# Altium footprint library WR-TBL_Pluggable Connector_7.62mm.PcbLib: 79 footprints (part 5 of 5)
Each footprint in its own frame and in the unit in brackets; x right, y up, seen from the top. Pads: shape width x height; smd on the part's side, far side on the other; paste and mask are expansions set on the pad; w line width, h text height; cw(c..) or ccw(c..) is an arc to the next point about the centre after c.
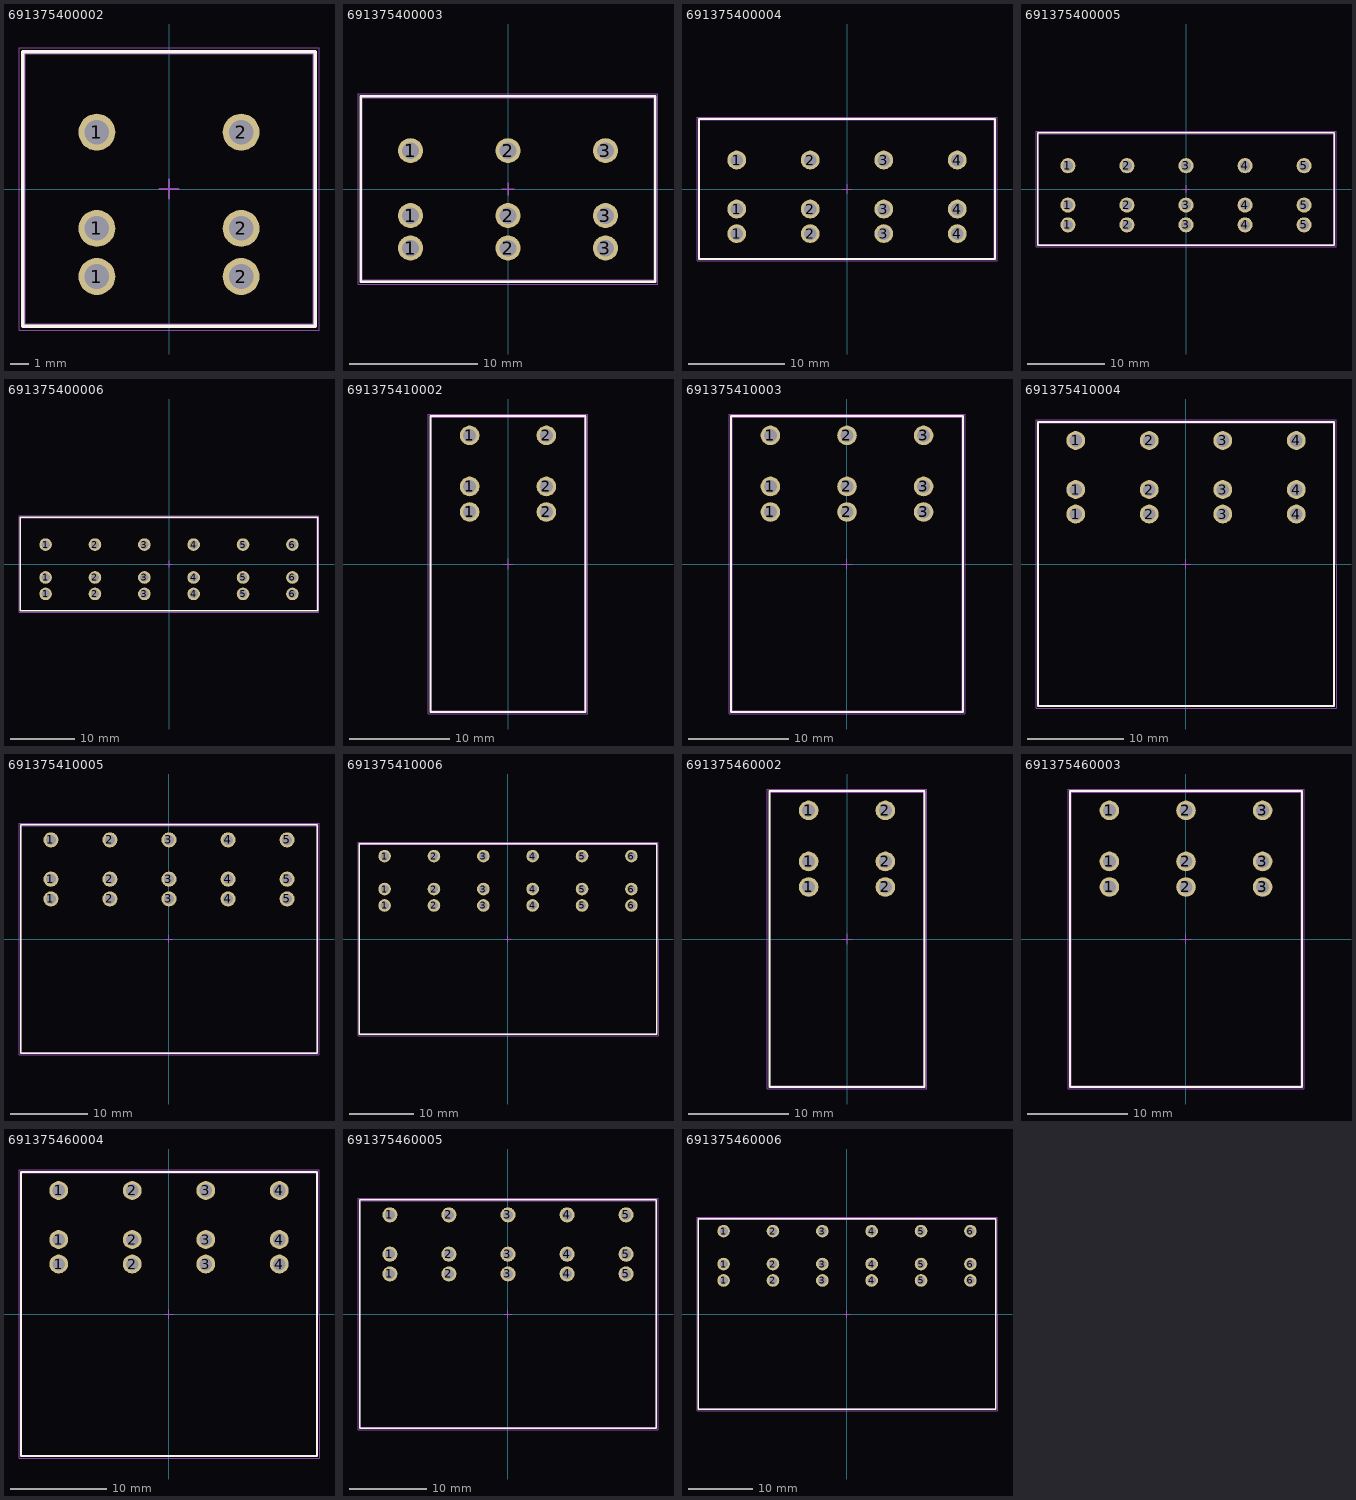
[diagram p4: the footprints below, top view; thin cyan lines are the x and y axes]

## 691375400002 [mm] "PCB Header Vertical - Triple Pin, 2p"
height 29.25
pads (6):
  round 1.95 hole 1.3: 1(-3.81,-4.62) 1(-3.81,-2.08) 1(-3.81,3) 2(3.81,-4.62) 2(3.81,-2.08) 2(3.81,3)
Top Overlay:
  lines w0.2: -7.72,-7.25 -7.72,7.25 7.72,7.25 7.72,-7.25 -7.72,-7.25
Top Assembly:
  lines w0.1: -7.62,-7.15 -7.62,7.15 7.62,7.15 7.62,-7.15 -7.62,-7.15
Top Designator:
  text ".Designator" at -3.647,-0.357 h1
Top Courtyard:
  lines w0.05: -7.92,-7.45 -7.92,7.45 7.92,7.45 7.92,-7.45 -7.92,-7.45
Top Component Center:
  lines w0.1: -0.5,0 0.5,0 ; 0,-0.5 0,0.5
3D body "691375400002.stp": height 29.31, standoff -4.94, extent -7.62,-7.15 7.62,7.15

## 691375400003 [mm] "PCB Header Vertical - Triple Pin, 3p"
height 29.25
pads (9):
  round 1.95 hole 1.3: 1(-7.62,-4.62) 1(-7.62,-2.08) 1(-7.62,3) 2(0,-4.62) 2(0,-2.08) 2(0,3) 3(7.62,-4.62) 3(7.62,-2.08) 3(7.62,3)
Top Overlay:
  lines w0.2: -11.53,-7.25 -11.53,7.25 11.53,7.25 11.53,-7.25 -11.53,-7.25
Top Assembly:
  lines w0.1: -11.43,-7.15 -11.43,7.15 11.43,7.15 11.43,-7.15 -11.43,-7.15
Top Designator:
  text ".Designator" at -3.647,-0.357 h1
Top Courtyard:
  lines w0.05: -11.73,-7.45 -11.73,7.45 11.73,7.45 11.73,-7.45 -11.73,-7.45
Top Component Center:
  lines w0.1: -0.5,0 0.5,0 ; 0,-0.5 0,0.5
3D body "691375400003.stp": height 29.31, standoff -4.94, extent -11.43,-7.15 11.43,7.15

## 691375400004 [mm] "PCB Header Vertical - Triple Pin, 4p"
height 29.25
pads (12):
  round 1.95 hole 1.3: 1(-11.43,-4.62) 1(-11.43,-2.08) 1(-11.43,3) 2(-3.81,-4.62) 2(-3.81,-2.08) 2(-3.81,3) 3(3.81,-4.62) 3(3.81,-2.08) 3(3.81,3) 4(11.43,-4.62) 4(11.43,-2.08) 4(11.43,3)
Top Overlay:
  lines w0.2: -15.34,-7.25 -15.34,7.25 15.34,7.25 15.34,-7.25 -15.34,-7.25
Top Assembly:
  lines w0.1: -15.24,-7.15 -15.24,7.15 15.24,7.15 15.24,-7.15 -15.24,-7.15
Top Designator:
  text ".Designator" at -3.647,-0.357 h1
Top Courtyard:
  lines w0.05: -15.54,-7.45 -15.54,7.45 15.54,7.45 15.54,-7.45 -15.54,-7.45
Top Component Center:
  lines w0.1: -0.5,0 0.5,0 ; 0,-0.5 0,0.5
3D body "691375400004.stp": height 29.31, standoff -4.94, extent -15.24,-7.15 15.24,7.15

## 691375400005 [mm] "PCB Header Vertical - Triple Pin, 5p"
height 29.25
pads (15):
  round 1.95 hole 1.3: 1(-15.24,-4.62) 1(-15.24,-2.08) 1(-15.24,3) 2(-7.62,-4.62) 2(-7.62,-2.08) 2(-7.62,3) 3(0,-4.62) 3(0,-2.08) 3(0,3) 4(7.62,-4.62) 4(7.62,-2.08) 4(7.62,3) 5(15.24,-4.62) 5(15.24,-2.08) 5(15.24,3)
Top Overlay:
  lines w0.2: -19.15,-7.25 19.15,-7.25 19.15,7.25 -19.15,7.25 -19.15,-7.25
Top Assembly:
  lines w0.1: -19.05,-7.15 19.05,-7.15 19.05,7.15 -19.05,7.15 -19.05,-7.15
Top Designator:
  text ".Designator" at -3.647,-0.357 h1
Top Courtyard:
  lines w0.05: -19.35,-7.45 19.35,-7.45 19.35,7.45 -19.35,7.45 -19.35,-7.45
Top Component Center:
  lines w0.1: -0.5,0 0.5,0 ; 0,-0.5 0,0.5
3D body "691375400005.stp": height 29.31, standoff -4.94, extent -19.05,-7.15 19.05,7.15

## 691375400006 [mm] "PCB Header Vertical - Triple Pin, 6p"
height 29.25
pads (18):
  round 1.95 hole 1.3: 1(-19.05,-4.62) 1(-19.05,-2.08) 1(-19.05,3) 2(-11.43,-4.62) 2(-11.43,-2.08) 2(-11.43,3) 3(-3.81,-4.62) 3(-3.81,-2.08) 3(-3.81,3) 4(3.81,-4.62) 4(3.81,-2.08) 4(3.81,3) 5(11.43,-4.62) 5(11.43,-2.08) 5(11.43,3) 6(19.05,-4.62) 6(19.05,-2.08) 6(19.05,3)
Top Overlay:
  lines w0.2: -22.96,-7.25 22.96,-7.25 22.96,7.25 -22.96,7.25 -22.96,-7.25
Top Assembly:
  lines w0.1: -22.86,-7.15 22.86,-7.15 22.86,7.15 -22.86,7.15 -22.86,-7.15
Top Designator:
  text ".Designator" at -3.647,-0.357 h1
Top Courtyard:
  lines w0.05: -23.16,-7.45 23.16,-7.45 23.16,7.45 -23.16,7.45 -23.16,-7.45
Top Component Center:
  lines w0.1: -0.5,0 0.5,0 ; 0,-0.5 0,0.5
3D body "691375400006.stp": height 29.31, standoff -4.94, extent -22.86,-7.15 22.86,7.15

## 691375410002 [mm] "PCB Header Horizontal - Triple Pin, 2p"
height 14.3
pads (6):
  round 1.95 hole 1.3: 1(-3.81,5.175) 1(-3.81,7.715) 1(-3.81,12.795) 2(3.81,5.175) 2(3.81,7.715) 2(3.81,12.795)
Top Overlay:
  lines w0.2: -7.72,-14.725 7.72,-14.725 7.72,14.725 -7.72,14.725 -7.72,-14.725
Top Assembly:
  lines w0.1: -7.62,-14.625 7.62,-14.625 7.62,14.625 -7.62,14.625 -7.62,-14.625
Top Designator:
  text ".Designator" at -3.647,-0.357 h1
Top Courtyard:
  lines w0.05: -7.92,-14.925 -7.92,14.925 7.92,14.925 7.92,-14.925 -7.92,-14.925
Top Component Center:
  lines w0.1: -0.5,0 0.5,0 ; 0,-0.5 0,0.5
3D body "691375410002.stp": height 14.42, standoff -4.88, extent -7.62,-14.625 7.62,14.625

## 691375410003 [mm] "PCB Header Horizontal - Triple Pin, 3p"
height 14.3
pads (9):
  round 1.95 hole 1.3: 1(-7.62,5.175) 1(-7.62,7.715) 1(-7.62,12.795) 2(0,5.175) 2(0,7.715) 2(0,12.795) 3(7.62,5.175) 3(7.62,7.715) 3(7.62,12.795)
Top Overlay:
  lines w0.2: -11.53,-14.725 -11.53,14.725 11.53,14.725 11.53,-14.725 -11.53,-14.725
Top Assembly:
  lines w0.1: -11.43,-14.625 -11.43,14.625 11.43,14.625 11.43,-14.625 -11.43,-14.625
Top Designator:
  text ".Designator" at -3.647,-0.357 h1
Top Courtyard:
  lines w0.05: -11.73,-14.925 11.73,-14.925 11.73,14.925 -11.73,14.925 -11.73,-14.925
Top Component Center:
  lines w0.1: -0.5,0 0.5,0 ; 0,-0.5 0,0.5
3D body "691375410003.stp": height 14.42, standoff -4.88, extent -11.43,-14.625 11.43,14.625

## 691375410004 [mm] "PCB Header Horizontal - Triple Pin, 4p"
height 14.3
pads (12):
  round 1.95 hole 1.3: 1(-11.43,5.175) 1(-11.43,7.715) 1(-11.43,12.795) 2(-3.81,5.175) 2(-3.81,7.715) 2(-3.81,12.795) 3(3.81,5.175) 3(3.81,7.715) 3(3.81,12.795) 4(11.43,5.175) 4(11.43,7.715) 4(11.43,12.795)
Top Overlay:
  lines w0.2: -15.34,-14.725 -15.34,14.725 15.34,14.725 15.34,-14.725 -15.34,-14.725
Top Assembly:
  lines w0.1: -15.24,-14.625 -15.24,14.625 15.24,14.625 15.24,-14.625 -15.24,-14.625
Top Designator:
  text ".Designator" at -3.647,-0.357 h1
Top Courtyard:
  lines w0.05: -15.54,-14.925 15.54,-14.925 15.54,14.925 -15.54,14.925 -15.54,-14.925
Top Component Center:
  lines w0.1: -0.5,0 0.5,0 ; 0,-0.5 0,0.5
3D body "691375410004.stp": height 14.42, standoff -4.88, extent -15.24,-14.625 15.24,14.625

## 691375410005 [mm] "PCB Header Horizontal - Triple Pin, 5p"
height 14.3
pads (15):
  round 1.95 hole 1.3: 1(-15.24,5.175) 1(-15.24,7.715) 1(-15.24,12.795) 2(-7.62,5.175) 2(-7.62,7.715) 2(-7.62,12.795) 3(0,5.175) 3(0,7.715) 3(0,12.795) 4(7.62,5.175) 4(7.62,7.715) 4(7.62,12.795) 5(15.24,5.175) 5(15.24,7.715) 5(15.24,12.795)
Top Overlay:
  lines w0.2: -19.15,-14.725 19.15,-14.725 19.15,14.725 -19.15,14.725 -19.15,-14.725
Top Assembly:
  lines w0.1: -19.05,-14.625 19.05,-14.625 19.05,14.625 -19.05,14.625 -19.05,-14.625
Top Designator:
  text ".Designator" at -3.647,-0.357 h1
Top Courtyard:
  lines w0.05: -19.35,-14.925 -19.35,14.925 19.35,14.925 19.35,-14.925 -19.35,-14.925
Top Component Center:
  lines w0.1: -0.5,0 0.5,0 ; 0,-0.5 0,0.5
3D body "691375410005.stp": height 14.42, standoff -4.88, extent -19.05,-14.625 19.05,14.625

## 691375410006 [mm] "PCB Header Horizontal - Triple Pin, 6p"
height 14.3
pads (18):
  round 1.95 hole 1.3: 1(-19.05,5.175) 1(-19.05,7.715) 1(-19.05,12.795) 2(-11.43,5.175) 2(-11.43,7.715) 2(-11.43,12.795) 3(-3.81,5.175) 3(-3.81,7.715) 3(-3.81,12.795) 4(3.81,5.175) 4(3.81,7.715) 4(3.81,12.795) 5(11.43,5.175) 5(11.43,7.715) 5(11.43,12.795) 6(19.05,5.175) 6(19.05,7.715) 6(19.05,12.795)
Top Overlay:
  lines w0.2: -22.96,-14.725 -22.96,14.725 22.96,14.725 22.96,-14.725 -22.96,-14.725
Top Assembly:
  lines w0.1: -22.86,-14.625 -22.86,14.625 22.86,14.625 22.86,-14.625 -22.86,-14.625
Top Designator:
  text ".Designator" at -3.647,-0.357 h1
Top Courtyard:
  lines w0.05: -23.16,-14.925 23.16,-14.925 23.16,14.925 -23.16,14.925 -23.16,-14.925
Top Component Center:
  lines w0.1: -0.5,0 0.5,0 ; 0,-0.5 0,0.5
3D body "691375410006.stp": height 14.42, standoff -4.88, extent -22.86,-14.625 22.86,14.625

## 691375460002 [mm] "PCB Header Upsidedown Horizontal - Triple Pin, 2p"
height 14.3
pads (6):
  round 1.95 hole 1.3: 1(-3.81,5.175) 1(-3.81,7.715) 1(-3.81,12.795) 2(3.81,5.175) 2(3.81,7.715) 2(3.81,12.795)
Top Overlay:
  lines w0.2: -7.72,-14.725 -7.72,14.725 7.72,14.725 7.72,-14.725 -7.72,-14.725
Top Assembly:
  lines w0.1: -7.62,-14.625 -7.62,14.625 7.62,14.625 7.62,-14.625 -7.62,-14.625
Top Designator:
  text ".Designator" at -3.647,-0.357 h1
Top Courtyard:
  lines w0.05: -7.92,-14.925 -7.92,14.925 7.92,14.925 7.92,-14.925 -7.92,-14.925
Top Component Center:
  lines w0.1: -0.5,0 0.5,0 ; 0,-0.5 0,0.5
3D body "691375460002.stp": height 14.51, standoff -3.52, extent -7.66,-14.625 7.66,14.7

## 691375460003 [mm] "PCB Header Upsidedown Horizontal - Triple Pin, 3p"
height 14.3
pads (9):
  round 1.95 hole 1.3: 1(-7.62,5.175) 1(-7.62,7.715) 1(-7.62,12.795) 2(0,5.175) 2(0,7.715) 2(0,12.795) 3(7.62,5.175) 3(7.62,7.715) 3(7.62,12.795)
Top Overlay:
  lines w0.2: -11.53,-14.725 -11.53,14.725 11.53,14.725 11.53,-14.725 -11.53,-14.725
Top Assembly:
  lines w0.1: -11.43,-14.625 -11.43,14.625 11.43,14.625 11.43,-14.625 -11.43,-14.625
Top Designator:
  text ".Designator" at -3.647,-0.357 h1
Top Courtyard:
  lines w0.05: -11.73,-14.925 -11.73,14.925 11.73,14.925 11.73,-14.925 -11.73,-14.925
Top Component Center:
  lines w0.1: -0.5,0 0.5,0 ; 0,-0.5 0,0.5
3D body "691375460003.stp": height 14.51, standoff -3.57, extent -11.469,-14.625 11.469,14.701

## 691375460004 [mm] "PCB Header Upsidedown Horizontal - Triple Pin, 4p"
height 14.3
pads (12):
  round 1.95 hole 1.3: 1(-11.43,5.175) 1(-11.43,7.715) 1(-11.43,12.795) 2(-3.81,5.175) 2(-3.81,7.715) 2(-3.81,12.795) 3(3.81,5.175) 3(3.81,7.715) 3(3.81,12.795) 4(11.43,5.175) 4(11.43,7.715) 4(11.43,12.795)
Top Overlay:
  lines w0.2: -15.34,-14.725 15.34,-14.725 15.34,14.725 -15.34,14.725 -15.34,-14.725
Top Assembly:
  lines w0.1: -15.24,-14.625 15.24,-14.625 15.24,14.625 -15.24,14.625 -15.24,-14.625
Top Designator:
  text ".Designator" at -3.647,-0.357 h1
Top Courtyard:
  lines w0.05: -15.54,-14.925 15.54,-14.925 15.54,14.925 -15.54,14.925 -15.54,-14.925
Top Component Center:
  lines w0.1: -0.5,0 0.5,0 ; 0,-0.5 0,0.5
3D body "691375460004.stp": height 14.51, standoff -3.61, extent -15.279,-14.625 15.279,14.701

## 691375460005 [mm] "PCB Header Upsidedown Horizontal - Triple Pin, 5p"
height 14.3
pads (15):
  round 1.95 hole 1.3: 1(-15.24,5.175) 1(-15.24,7.715) 1(-15.24,12.795) 2(-7.62,5.175) 2(-7.62,7.715) 2(-7.62,12.795) 3(0,5.175) 3(0,7.715) 3(0,12.795) 4(7.62,5.175) 4(7.62,7.715) 4(7.62,12.795) 5(15.24,5.175) 5(15.24,7.715) 5(15.24,12.795)
Top Overlay:
  lines w0.2: -19.15,-14.725 -19.15,14.725 19.15,14.725 19.15,-14.725 -19.15,-14.725
Top Assembly:
  lines w0.1: -19.05,-14.625 -19.05,14.625 19.05,14.625 19.05,-14.625 -19.05,-14.625
Top Designator:
  text ".Designator" at -3.647,-0.357 h1
Top Courtyard:
  lines w0.05: -19.35,-14.925 -19.35,14.925 19.35,14.925 19.35,-14.925 -19.35,-14.925
Top Component Center:
  lines w0.1: -0.5,0 0.5,0 ; 0,-0.5 0,0.5
3D body "691375460005.stp": height 14.51, standoff -3.66, extent -19.089,-14.625 19.089,14.701

## 691375460006 [mm] "PCB Header Upsidedown Horizontal - Triple Pin, 6p"
height 14.3
pads (18):
  round 1.95 hole 1.3: 1(-19.05,5.175) 1(-19.05,7.715) 1(-19.05,12.795) 2(-11.43,5.175) 2(-11.43,7.715) 2(-11.43,12.795) 3(-3.81,5.175) 3(-3.81,7.715) 3(-3.81,12.795) 4(3.81,5.175) 4(3.81,7.715) 4(3.81,12.795) 5(11.43,5.175) 5(11.43,7.715) 5(11.43,12.795) 6(19.05,5.175) 6(19.05,7.715) 6(19.05,12.795)
Top Overlay:
  lines w0.2: -22.96,-14.725 -22.96,14.725 22.96,14.725 22.96,-14.725 -22.96,-14.725
Top Assembly:
  lines w0.1: -22.86,-14.625 -22.86,14.625 22.86,14.625 22.86,-14.625 -22.86,-14.625
Top Designator:
  text ".Designator" at -3.647,-0.357 h1
Top Courtyard:
  lines w0.05: -23.16,-14.925 -23.16,14.925 23.16,14.925 23.16,-14.925 -23.16,-14.925
Top Component Center:
  lines w0.1: -0.5,0 0.5,0 ; 0,-0.5 0,0.5
3D body "691375460006.stp": height 14.51, standoff -3.7, extent -22.899,-14.625 22.899,14.701